# Altium schematic symbol library Diodo.SchLib: 2 symbols
Pins are listed as number, name and electrical type; pins without a type are passive.

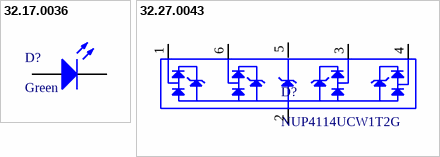
[diagram p0: symbols 32.17.0036 to 32.27.0043]

## 32.17.0036
designator D?, comment Green
LED VERDE 0603 SMD; Category: Standard LEDs - SMD; Price: 1=, 50=, 100= (USD); Package / Case: 0603; Color: Green; Library Ref: Diodo/Led; ComponentLink1Description: Mouser Link; ComponentLink2Description: Datasheet Link
footprint LED_0603
pins: A, K

## 32.27.0043
designator D?, comment NUP4114UCW1T2G
DIODO TVS 10V SC-88-6; Voltage - Forward (Vf) (Max) @ If: 10V @ 12A; Voltage - DC Reverse (Vr) (Max): 5.5V; Part Number: NUP4114UCW1T2G; Category: ESD Suppressors / TVS Diodes; Price: 1=, 10=, 100= (USD); Package / Case: SC-88-6; Current - Average Rectified (Io): -; Operating Temperature: -40 C ~ 125 C; Diode Type: TVS; Library Ref: Diodo/Led; ComponentLink1Description: Datasheet; ComponentLink1URL: https://br.mouser.com/datasheet/2/308/1/NUP4114_D-2319369.pdf; ComponentLink2Description: Mouser Link
footprint DIODO_SC-88-6
pins: 1, 2 (power), 3, 4, 5 (power), 6